# Altium schematic symbol library 1050170001.Schlib: 1 symbol
Pins are listed as number, name and electrical type; pins without a type are passive.

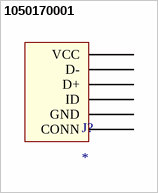
[diagram p0: symbol 1050170001]

## 1050170001
designator J?
CONN SM TH USB MICRO MODIFIED FOR DRILL
pins: 0 CONN, 1 VCC, 2 D-, 3 D+, 4 ID, 5 GND